# EAGLE library part PJ-242 (library PJ-242)
PJ-242 6pin 2.5mm headphone socket
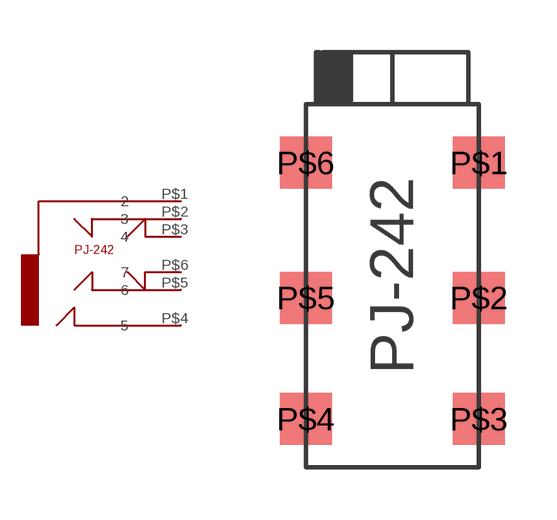
[diagram p0: symbol with the pads of PJ-242; footprint PJ-242]

Designator prefix -

## PJ-242 (PARTNO: PJ-242 2.5mm headphone jack socket 6 pin)  [PJ-242]
P$1  2
P$2  3
P$3  4
P$4  5
P$5  6
P$6  7

## Footprint PJ-242 (pad centres in mm)
PJ-262
smd 1.5 x 1.5: P$1 2.5,3.8; P$2 2.5,-0.1; P$3 2.5,-3.6; P$4 -2.5,-3.6; P$5 -2.5,-0.1; P$6 -2.5,3.8